# EAGLE library part DM74S573 (library dms-natsemi)
MEMORY
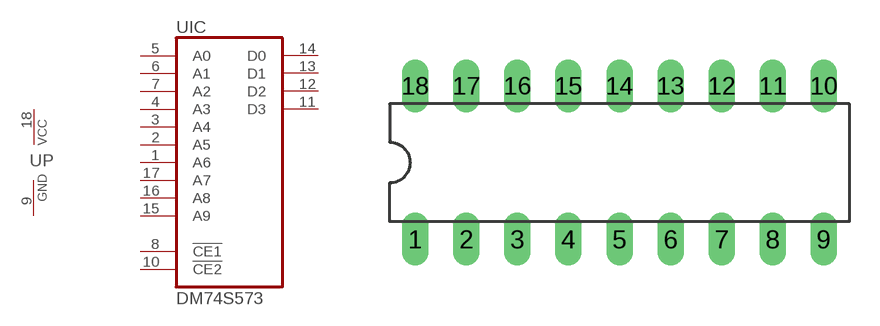
[diagram p0: symbol with the pads of DIL18; footprint DIL18]

Designator prefix U; gates IC=DM74S573 P=PWRN

## DM74S573  [DIL18]
1  IC:A6  in
2  IC:A5  in
3  IC:A4  in
4  IC:A3  in
5  IC:A0  in
6  IC:A1  in
7  IC:A2  in
8  IC:!CE1  in
9  P:GND  pwr
10  IC:!CE2  in
11  IC:D3  hiz
12  IC:D2  hiz
13  IC:D1  hiz
14  IC:D0  hiz
15  IC:A9  in
16  IC:A8  in
17  IC:A7  in
18  P:VCC  pwr

## Footprint DIL18 (pad centres in mm)
Dual In Line Package
drill 0.813 long: 1 -10.16,-3.81; 2 -7.62,-3.81; 3 -5.08,-3.81; 4 -2.54,-3.81; 5 0,-3.81; 6 2.54,-3.81; 7 5.08,-3.81; 8 7.62,-3.81; 9 10.16,-3.81; 10 10.16,3.81; 11 7.62,3.81; 12 5.08,3.81; 13 2.54,3.81; 14 0,3.81; 15 -2.54,3.81; 16 -5.08,3.81; 17 -7.62,3.81; 18 -10.16,3.81